# Altium footprint library CML0603C0G300JT50V.PcbLib: 3 footprints
Each footprint in its own frame and in the unit in brackets; x right, y up, seen from the top. Pads: shape width x height; smd on the part's side, far side on the other; paste and mask are expansions set on the pad; w line width, h text height; cw(c..) or ccw(c..) is an arc to the next point about the centre after c.
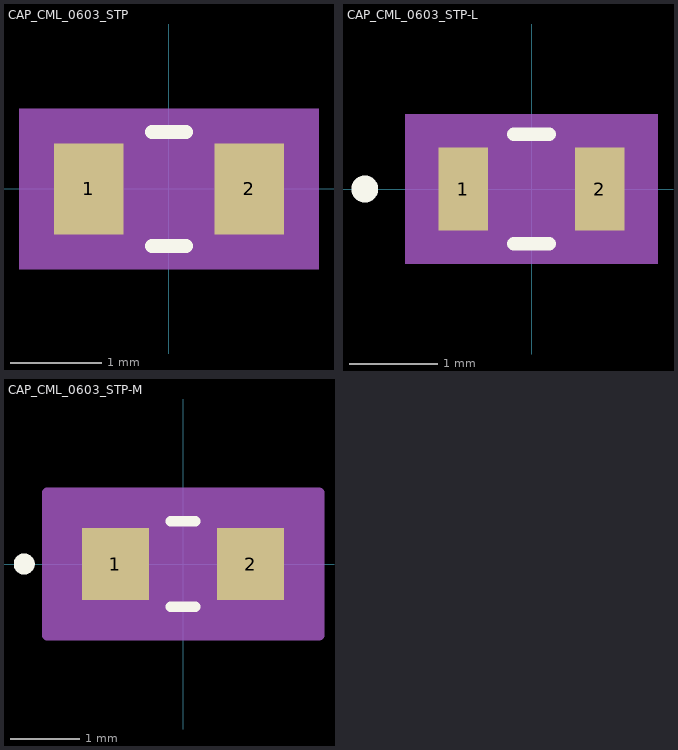
[diagram p0: the footprints below, top view; thin cyan lines are the x and y axes]

## CAP_CML_0603_STP [mil]
pads (2):
  rect 30x39 smd paste+0 mask+0: 1(-34.5,0) 2(34.5,0)
Top Overlay:
  lines w6: -7.39,-24.5 7.39,-24.5 ; -7.39,24.5 7.39,24.5
Mechanical 5:
  region: 64.5,-34.5 -64.5,-34.5 -64.5,34.5 64.5,34.5
Mechanical 13:
  circle w0: c-29.5,0 r0
  lines w1: -35.5,-19.5 -35.5,19.5 ; -35.5,-19.5 -19.5,-19.5 -19.5,19.5 -35.5,19.5 ; -35.5,-19.5 35.5,-19.5 ; -35.5,-19.5 -35.5,19.5 ; -35.5,19.5 35.5,19.5 ; 35.5,-19.5 19.5,-19.5 19.5,19.5 35.5,19.5 ; 35.5,-19.5 35.5,19.5 ; 35.5,-19.5 35.5,19.5
Mechanical 15:
  region: 59.5,-29.5 -59.5,-29.5 -59.5,29.5 59.5,29.5
  lines w6: -59.5,-29.5 -59.5,29.5 59.5,29.5 59.5,-29.5 -59.5,-29.5
3D body "CAP_CML_0603_STP.step": height 35, standoff 0, extent -35.51,-19.49 35.51,19.49

## CAP_CML_0603_STP-L [mil]
pads (2):
  rect 22x37 smd paste+0 mask+0: 1(-30.5,0) 2(30.5,0)
Top Overlay:
  circle w6: c-74.5,0 r3
  lines w6: -7.85,-24.5 7.85,-24.5 ; -7.85,24.5 7.85,24.5
Mechanical 5:
  region: 56.5,-33.5 -56.5,-33.5 -56.5,33.5 56.5,33.5
Mechanical 13:
  circle w0: c-25.5,0 r3
  lines w1: -35.5,-19.5 -35.5,19.5 ; -35.5,-19.5 -19.5,-19.5 -19.5,19.5 -35.5,19.5 ; -35.5,-19.5 35.5,-19.5 ; -35.5,-19.5 -35.5,19.5 ; -35.5,19.5 35.5,19.5 ; 35.5,-19.5 19.5,-19.5 19.5,19.5 35.5,19.5 ; 35.5,-19.5 35.5,19.5 ; 35.5,-19.5 35.5,19.5
Mechanical 15:
  region: 45.5,-22.5 -45.5,-22.5 -45.5,22.5 45.5,22.5
  lines w6: -45.5,-22.5 -45.5,22.5 45.5,22.5 45.5,-22.5 -45.5,-22.5
3D body "CAP_CML_0603_STP.step": height 35, standoff 0, extent -35.51,-19.49 35.51,19.49

## CAP_CML_0603_STP-M [mil]
pads (2):
  rect 38x41 smd paste+0 mask+0: 1(-38.5,0) 2(38.5,0)
Top Overlay:
  circle w6: c-90.5,0 r3
  lines w6: -7.03,-24.5 7.03,-24.5 ; -7.03,24.5 7.03,24.5
Mechanical 5:
  region: 72.5,-35.5 -72.5,-35.5 -72.5,35.5 72.5,35.5
Mechanical 13:
  circle w0: c-33.5,0 r3
  lines w1: -35.5,-19.5 -35.5,19.5 ; -35.5,-19.5 -19.5,-19.5 -19.5,19.5 -35.5,19.5 ; -35.5,-19.5 35.5,-19.5 ; -35.5,-19.5 -35.5,19.5 ; -35.5,19.5 35.5,19.5 ; 35.5,-19.5 19.5,-19.5 19.5,19.5 35.5,19.5 ; 35.5,-19.5 35.5,19.5 ; 35.5,-19.5 35.5,19.5
Mechanical 15:
  region: 77.5,-40.5 -77.5,-40.5 -77.5,40.5 77.5,40.5
  lines w6: -77.5,-40.5 -77.5,40.5 77.5,40.5 77.5,-40.5 -77.5,-40.5
3D body "CAP_CML_0603_STP.step": height 35, standoff 0, extent -35.51,-19.49 35.51,19.49